# EAGLE library part DIODE_BRIDGE-ARRAY-2 (library FlashPCB_Diodes)
DIODE BIDGE - Array 2 Pair Technical Specifications: Diode Configuration: 2 Pair CA + CC Component Search: BAV756DW <[FLASHPCB URL]> Datasheet: BAV756DW <https://www.diodes.com/assets/Datasheets/ds30148.pdf>
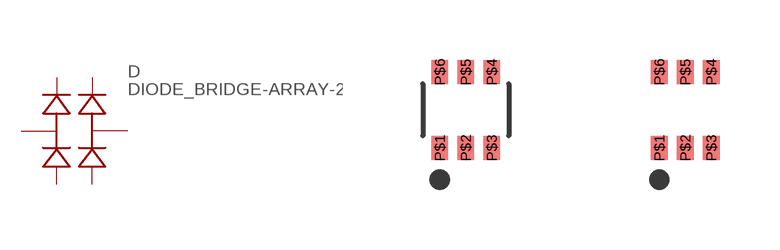
[diagram p0: symbol with the pads of SOT-363; footprints SOT-363, SOT-363_NOSILK]

Designator prefix D

## DIODE_BRIDGE-ARRAY-2SOT-363  [SOT-363]
P$1  A1
P$2  C1
P$3  AC2
P$4  A2
P$5  C2
P$6  AC1

## DIODE_BRIDGE-ARRAY-2SOT363-NOSILK  [SOT-363_NOSILK]
Pads as for SOT-363

## Footprint SOT-363 (pad centres in mm)
smd 0.42 x 0.6: P$1 -0.65,-0.95; P$2 0,-0.95; P$3 0.65,-0.95; P$4 0.65,0.95; P$5 0,0.95; P$6 -0.65,0.95

## Footprint SOT-363_NOSILK (pad centres in mm)
smd 0.42 x 0.6: P$1 -0.65,-0.95; P$2 0,-0.95; P$3 0.65,-0.95; P$4 0.65,0.95; P$5 0,0.95; P$6 -0.65,0.95